# Altium footprint library key_PcbLib.PcbLib: 3 footprints
Each footprint in its own frame and in the unit in brackets; x right, y up, seen from the top. Pads: shape width x height; smd on the part's side, far side on the other; paste and mask are expansions set on the pad; w line width, h text height; cw(c..) or ccw(c..) is an arc to the next point about the centre after c.
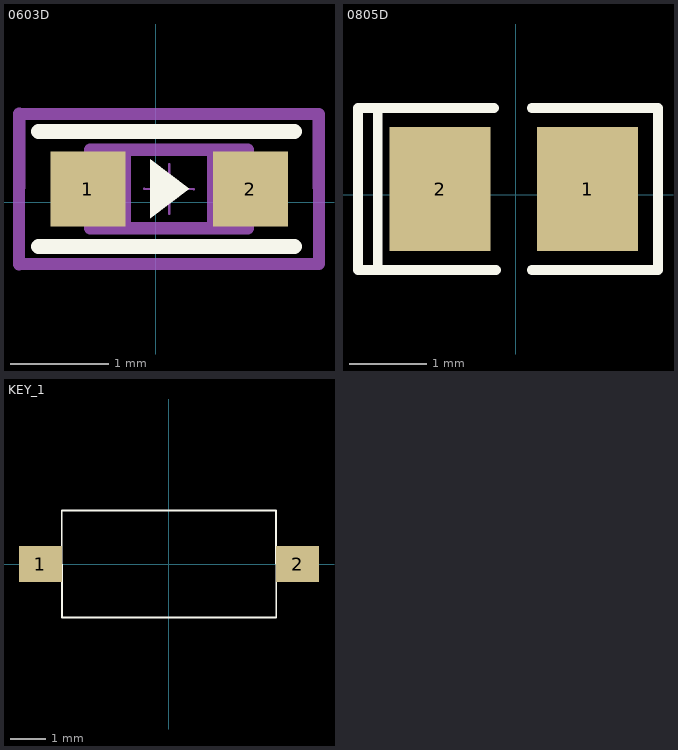
[diagram p0: the footprints below, top view; thin cyan lines are the x and y axes]

## 0603D [mil]
pads (2):
  rect 30x30 smd mask+4: 1(-27.18,5.35) 2(37.81,5.35)
Top Overlay:
  region: -2.24,17.24 -2.24,-6.38 13.5,5.43
  lines w6: -46.87,-17.68 37.91,-17.68 55.49,-17.68 ; -46.87,28.39 37.91,28.39 55.49,28.39
Mechanical 13:
  lines w1: -4.53,5.35 15.16,5.35 ; 5.32,-4.49 5.32,15.2
  lines w5: -12.4,-10.39 -12.4,21.1 -26.18,21.1 ; 23.03,-10.39 23.03,21.1 36.81,21.1 ; -26.18,21.1 36.81,21.1 ; -26.18,21.1 -26.18,-10.39 36.81,-10.39 36.81,21.1
Mechanical 15:
  lines w5: -54.69,-24.65 -54.68,35.35 65.31,35.35 65.31,-24.65 -54.69,-24.65
3D body: height 33.86, standoff 0, extent -26.18,-10.39 -12.4,21.1
3D body: height 33.86, standoff 0, extent 23.03,-10.39 36.81,21.1
3D body: height 33.86, standoff 0, extent -12.4,-10.39 23.03,21.1

## 0805D [mm]
pads (2):
  rect 1.3x1.6 smd: 1(0.925,0.076) 2(-0.975,0.076)
Top Overlay:
  lines w0.127: -1.778,-0.965 -1.778,1.067 ; -0.283,1.118 -2.032,1.118 -2.032,-0.965 -0.254,-0.965 ; 0.203,-0.965 1.829,-0.965 1.829,1.118 0.203,1.118
3D body: height 1.1, standoff -0.01, extent -1.041,-0.559 0.991,0.711

## KEY_1 [mm]
height 3
pads (2):
  rect 1.2x1 smd: 1(-3.6,0) 2(3.6,0)
Top Overlay:
  lines w0.05: -3,-1.5 -3,1.5 3,1.5 3,-1.5 -3,-1.5
3D body: height 0.3, standoff 0, extent 3,-0.5 4,0.5
3D body: height 0.3, standoff 0, extent -4,-0.5 -3,0.5
3D body: height 3.8, standoff 0, extent 2.5,-1 3,1
3D body: height 3.8, standoff 0, extent -3,-1 -2.5,1
3D body: height 4.3, standoff 3.6, extent -1.5,-0.5 1.5,0.5
3D body: height 3.6, standoff 0, extent -3,-1.5 3,1.5